# Altium schematic symbol library TLV9051IDCKR_Amp.SchLib: 1 symbol
Pins are listed as number, name and electrical type; pins without a type are passive.

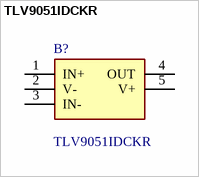
[diagram p0: symbol TLV9051IDCKR]

## TLV9051IDCKR
designator B?
Operational Amplifiers - Op Amps OPAMP; Manufacturer_Name: Texas Instruments; Geometry.Height: 1.1mm; Mouser Part Number: 595-TLV9051IDCKR; Mouser Price/Stock: https://www.mouser.co.uk/ProductDetail/Texas-Instruments/TLV9051IDCKR?qs=T3oQrply3y8HFppUE%252BGx7w%3D%3D; Manufacturer_Part_Number: TLV9051IDCKR; Datasheet Link: https://www.ti.com/lit/gpn/TLV9051
footprint SOT65P210X110-5N
pins: 1 IN+, 2 V-, 3 IN-, 4 OUT, 5 V+